# EAGLE library part 632722100213 (library Wurth_Connectors_WR-USB)
WR-COM USB Power Delivery Type C Receptacle Horizontal SMT General Information Operating Temperature -40 °C up to +85 °C Durability 10 000 Mating cycles Gender Receptacle Type Horizontal Electrical Properties Working Voltage 48 V (DC) Withstanding Voltage 100 V (AC) Contact Resistance 40 mΩ Material Properties Insulator Material LCP Insulator Flammability Rating UL94 V-0 Insulator Color Black Contact Material Brass Contact Plating Selective Gold Shielding Material Steel Shielding Plating Nickel <https://www.we-online.com/catalog/media/o785209v209%20Multi-WR-USB31-632722100213.jpg> Details see: www.we-online.com/en/components/products/WR_COM_USB_POWER_DELIVERY_TYPE_C_RECEPTACLE_HORIZONTAL_SMT <www.we-online.com/catalog/WR_COM_USB_POWER_DELIVERY_TYPE_C_RECEPTACLE_HORIZONTAL_SMT/?utm_source=eagle_model&utm_medium=description_link&utm_campaign=eisos_eagle> Created by Ella Wu 2024-03-08 2024 (C) Würth Elektronik
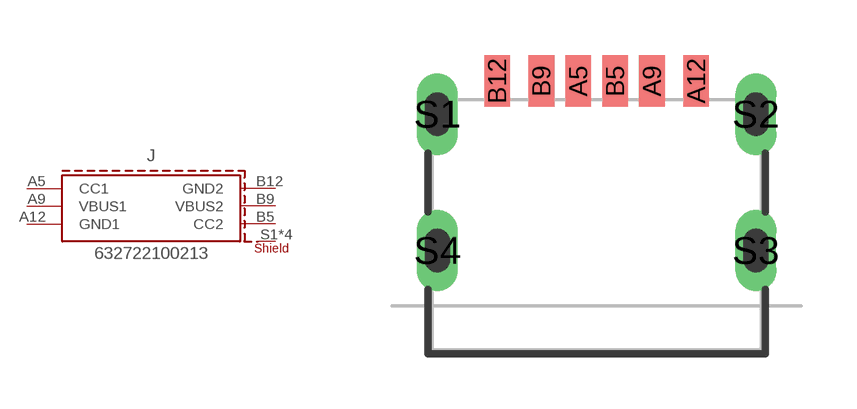
[diagram p16: symbol with the pads of 632722100213; footprint 632722100213]

Designator prefix J

## 632722100213 (APPLICATION: USB Power Delivery; DATASHEET-URL: https://www.we-online.com/redexpert/spec/632722100213?ae; GERDER: Receptacle; INTERFACE-TYPE: Type C; IR: 5A; MOUNT: SMT; PACKAGING: Tape and Reel; PART-NUMBER: 632722100213; PINS: 6; TYPE: Horizontal; VALUE: 632722100213; WORKING-VOLTAGE: 48V(DC))  [632722100213]
A5  CC1  pas
A9  VBUS1  pas
A12  GND1  pas
B5  CC2  pas
B9  VBUS2  pas
B12  GND2  pas
S1  SHIELD1  pas
S2  SHIELD1  pas
S3  SHIELD1  pas
S4  SHIELD1  pas

## Footprint 632722100213 (pad centres in mm)
smd 0.7 x 1.4: A5 -0.5,2.75; A9 1.5,2.75; A12 2.7,2.75; B5 0.5,2.75; B9 -1.5,2.75; B12 -2.7,2.75
drill 0.6 pad 0.7 long: S1 -4.32,1.85; S2 4.32,1.85; S3 4.32,-1.85; S4 -4.32,-1.85